# Altium footprint library Fuses.PcbLib: 2 footprints
Each footprint in its own frame and in the unit in brackets; x right, y up, seen from the top. Pads: shape width x height; smd on the part's side, far side on the other; paste and mask are expansions set on the pad; w line width, h text height; cw(c..) or ccw(c..) is an arc to the next point about the centre after c.
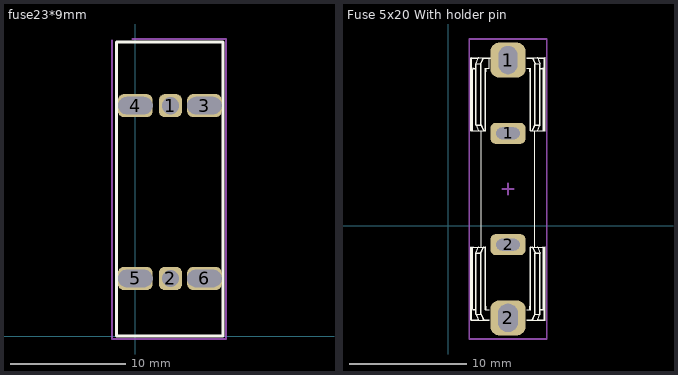
[diagram p0: the footprints below, top view; thin cyan lines are the x and y axes]

## fuse23*9mm [mm]
height 8
pads (6):
  rrect50% 2x2 hole 1.5: 1(3.048,20) 2(3.048,5)
  rrect50% 3x2 hole 1.5 slot 3 at 0 deg: 3(6,20) 4(0,20) 5(0,5) 6(6,5)
Top Overlay:
  lines w0.254: -1.651,0 7.62,0 7.62,25.527 -1.651,25.527 -1.651,0
Mechanical 15:
  lines w0.15: -2.032,25.654 -2.032,-0.254 7.874,-0.254 7.874,25.781 -0.252,25.781
3D body: height 1.5, standoff -1.5, extent 2.751,19.701 3.348,20.3
3D body: height 1.5, standoff -1.5, extent 2.751,4.701 3.348,5.3
3D body: height 7.5, standoff 2.5, extent 0.508,2.827 5.508,22.827
3D body: height 1, standoff 0, extent -1.524,0 7.501,25.4
3D body: height 10, standoff 0, extent -1.524,0.064 -0.889,5.271
3D body: height 10, standoff 0, extent -1.524,20.256 -0.889,25.463
3D body: height 10, standoff 0, extent 6.985,20.193 7.62,25.4
3D body: height 10, standoff 0, extent 7.112,0.127 7.747,5.334
3D body: height 10, standoff 0, extent -1.572,0.064 7.366,0.508
3D body: height 11, standoff 10, extent -1.778,-0.127 7.493,25.4
3D body: height 10, standoff 0, extent -1.445,24.956 7.493,25.4

## Fuse 5x20 With holder pin [mm]
height 8
pads (4):
  rrect50% 3x1.8 hole 1 slot 2 at 0 deg: 1(5.12,7.883) 2(5.12,-1.617)
  rrect50% 3x3 hole 1.6 slot 2.4 at 90 deg: 1(5.12,14.133)
  rrect50% 3x3 hole 1.7 slot 2.4 at 90 deg: 2(5.12,-7.867)
Top Overlay:
  drawing of 353 lines, arcs and shapes, not listed
Mechanical 15:
  lines w0.15: 4.62,3.133 5.62,3.133 ; 5.12,2.633 5.12,3.633 ; 1.82,-9.667 1.82,15.933 8.42,15.933 8.42,-9.667 1.82,-9.667
3D body "User Library-Clips FC-201 with fuse 5x20.STEP": height 8.63, standoff -3.56, extent 1.907,-8.387 8.254,14.991